# EAGLE library part 03MM (library FFChkMate)
PIN HEADER
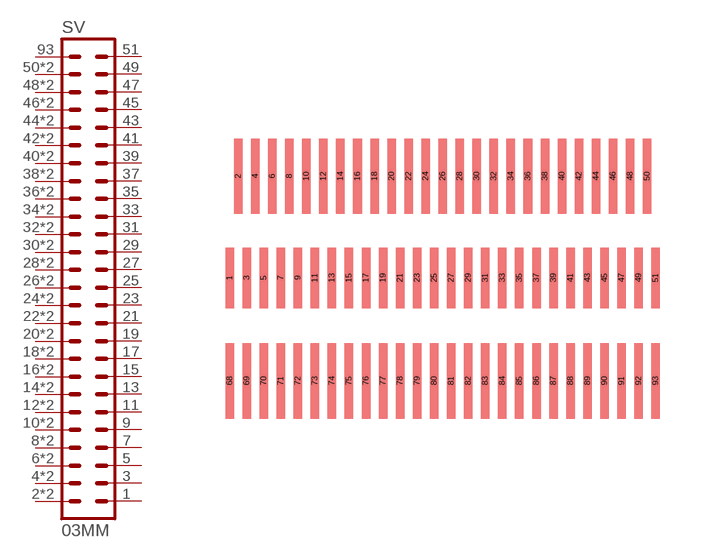
[diagram p0: symbol with the pads of 03MM; footprint 03MM]

Designator prefix SV

## 03MM  [03MM]
1  1  pas
2  2  pas
3  3  pas
4  4  pas
5  5  pas
6  6  pas
7  7  pas
8  8  pas
9  9  pas
10  10  pas
11  11  pas
12  12  pas
13  13  pas
14  14  pas
15  15  pas
16  16  pas
17  17  pas
18  18  pas
19  19  pas
20  20  pas
21  21  pas
22  22  pas
23  23  pas
24  24  pas
25  25  pas
26  26  pas
27  27  pas
28  28  pas
29  29  pas
30  30  pas
31  31  pas
32  32  pas
33  33  pas
34  34  pas
35  35  pas
36  36  pas
37  37  pas
38  38  pas
39  39  pas
40  40  pas
41  41  pas
42  42  pas
43  43  pas
44  44  pas
45  45  pas
46  46  pas
47  47  pas
48  48  pas
49  49  pas
50  50  pas
51  51  pas
68  2  pas
69  4  pas
70  6  pas
71  8  pas
72  10  pas
73  12  pas
74  14  pas
75  16  pas
76  18  pas
77  20  pas
78  22  pas
79  24  pas
80  26  pas
81  28  pas
82  30  pas
83  32  pas
84  34  pas
85  36  pas
86  38  pas
87  40  pas
88  42  pas
89  44  pas
90  46  pas
91  48  pas
92  50  pas
93  52  pas

## Footprint 03MM (pad centres in mm)
Rotary Backlock Connector (0.3-mm Pitch, Dual Contact) Source: Data sheet <http://www.omron.com/ecb/products/pdf/xf3b.pdf>
smd 0.3 x 2.124: 1 -9.9,-1.775; 3 -9.3,-1.775; 5 -8.7,-1.775; 7 -8.1,-1.775; 9 -7.5,-1.775; 11 -6.9,-1.775; 13 -6.3,-1.775; 15 -5.7,-1.775; 17 -5.1,-1.775; 19 -4.5,-1.775; 21 -3.9,-1.775; 23 -3.3,-1.775; 25 -2.7,-1.775; 27 -2.1,-1.775; 29 -1.5,-1.775; 31 -0.9,-1.775; 33 -0.3,-1.775; 35 0.3,-1.775; 37 0.9,-1.775; 39 1.5,-1.775; 41 2.1,-1.775; 43 2.7,-1.775; 45 3.3,-1.775; 47 3.9,-1.775; 49 4.5,-1.775; 51 5.1,-1.775
smd 0.3 x 2.65: 2 -9.6,1.8; 4 -9,1.8; 6 -8.4,1.8; 8 -7.8,1.8; 10 -7.2,1.8; 12 -6.6,1.8; 14 -6,1.8; 16 -5.4,1.8; 18 -4.8,1.8; 20 -4.2,1.8; 22 -3.6,1.8; 24 -3,1.8; 26 -2.4,1.8; 28 -1.8,1.8; 30 -1.2,1.8; 32 -0.6,1.8; 34 0,1.8; 36 0.6,1.8; 38 1.2,1.8; 40 1.8,1.8; 42 2.4,1.8; 44 3,1.8; 46 3.6,1.8; 48 4.2,1.8; 50 4.8,1.8; 68 -9.9,-5.4; 69 -9.3,-5.4; 70 -8.7,-5.4; 71 -8.1,-5.4; 72 -7.5,-5.4; 73 -6.9,-5.4; 74 -6.3,-5.4; 75 -5.7,-5.4; 76 -5.1,-5.4; 77 -4.5,-5.4; 78 -3.9,-5.4; 79 -3.3,-5.4; 80 -2.7,-5.4; 81 -2.1,-5.4; 82 -1.5,-5.4; 83 -0.9,-5.4; 84 -0.3,-5.4; 85 0.3,-5.4; 86 0.9,-5.4; 87 1.5,-5.4; 88 2.1,-5.4; 89 2.7,-5.4; 90 3.3,-5.4; 91 3.9,-5.4; 92 4.5,-5.4; 93 5.1,-5.4